# Altium footprint library SM_LED_6PLCC_3.5MMX3.5MM.PcbLib: 1 footprints
Each footprint in its own frame and in the unit in brackets; x right, y up, seen from the top. Pads: shape width x height; smd on the part's side, far side on the other; paste and mask are expansions set on the pad; w line width, h text height; cw(c..) or ccw(c..) is an arc to the next point about the centre after c.
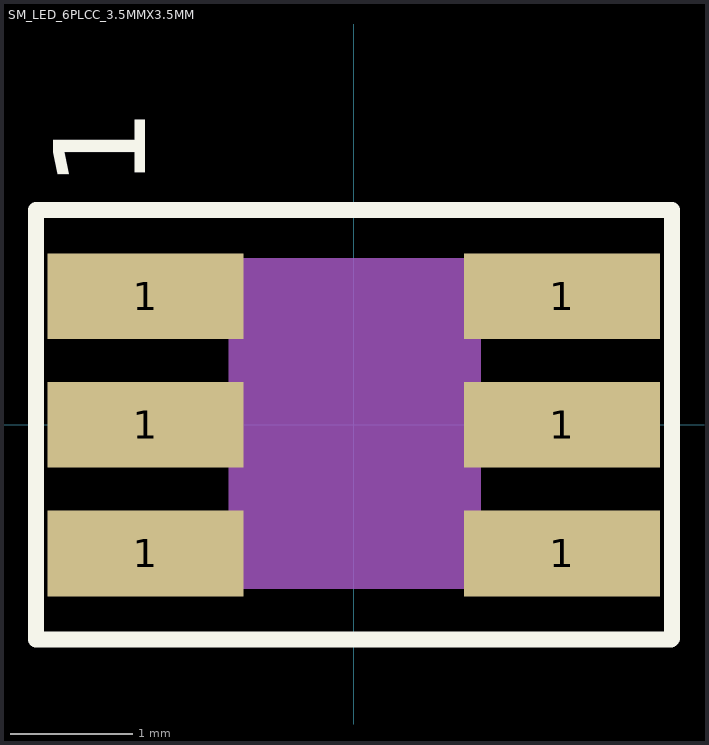
[diagram p0: the footprint, top view; thin cyan lines are the x and y axes]

## SM_LED_6PLCC_3.5MMX3.5MM [mm]
pads (6):
  rect 1.6x0.7 smd: 1(-1.7,-1.05) 1(-1.7,0) 1(-1.7,1.05) 1(1.7,-1.05) 1(1.7,0) 1(1.7,1.05)
Top Overlay:
  lines w0.13: -2.596,-1.753 2.591,-1.753 2.599,-1.744 2.599,1.753 -2.596,1.753 -2.596,-1.753
  text "1" at -1.702,1.93 h0.75
Mechanical 2:
  lines w0.13: -2.596,-1.348 -2.596,1.349 ; 2.599,-1.348 2.599,1.349
Mechanical 13:
  region: 1.039,-1.34 1.039,1.36 -1.021,1.36 -1.021,-1.34
3D body "User Library-Led RGB SMD PLCC6.STEP": height 2.12, standoff 0, extent -1.8,-1.75 1.8,1.75